# Altium integrated library TI Amplifiers and Linear Operational Amplifier High Speed.IntLib: 1100 symbols (part 1 of 44)
Pins are listed as number, name and electrical type; pins without a type are passive.

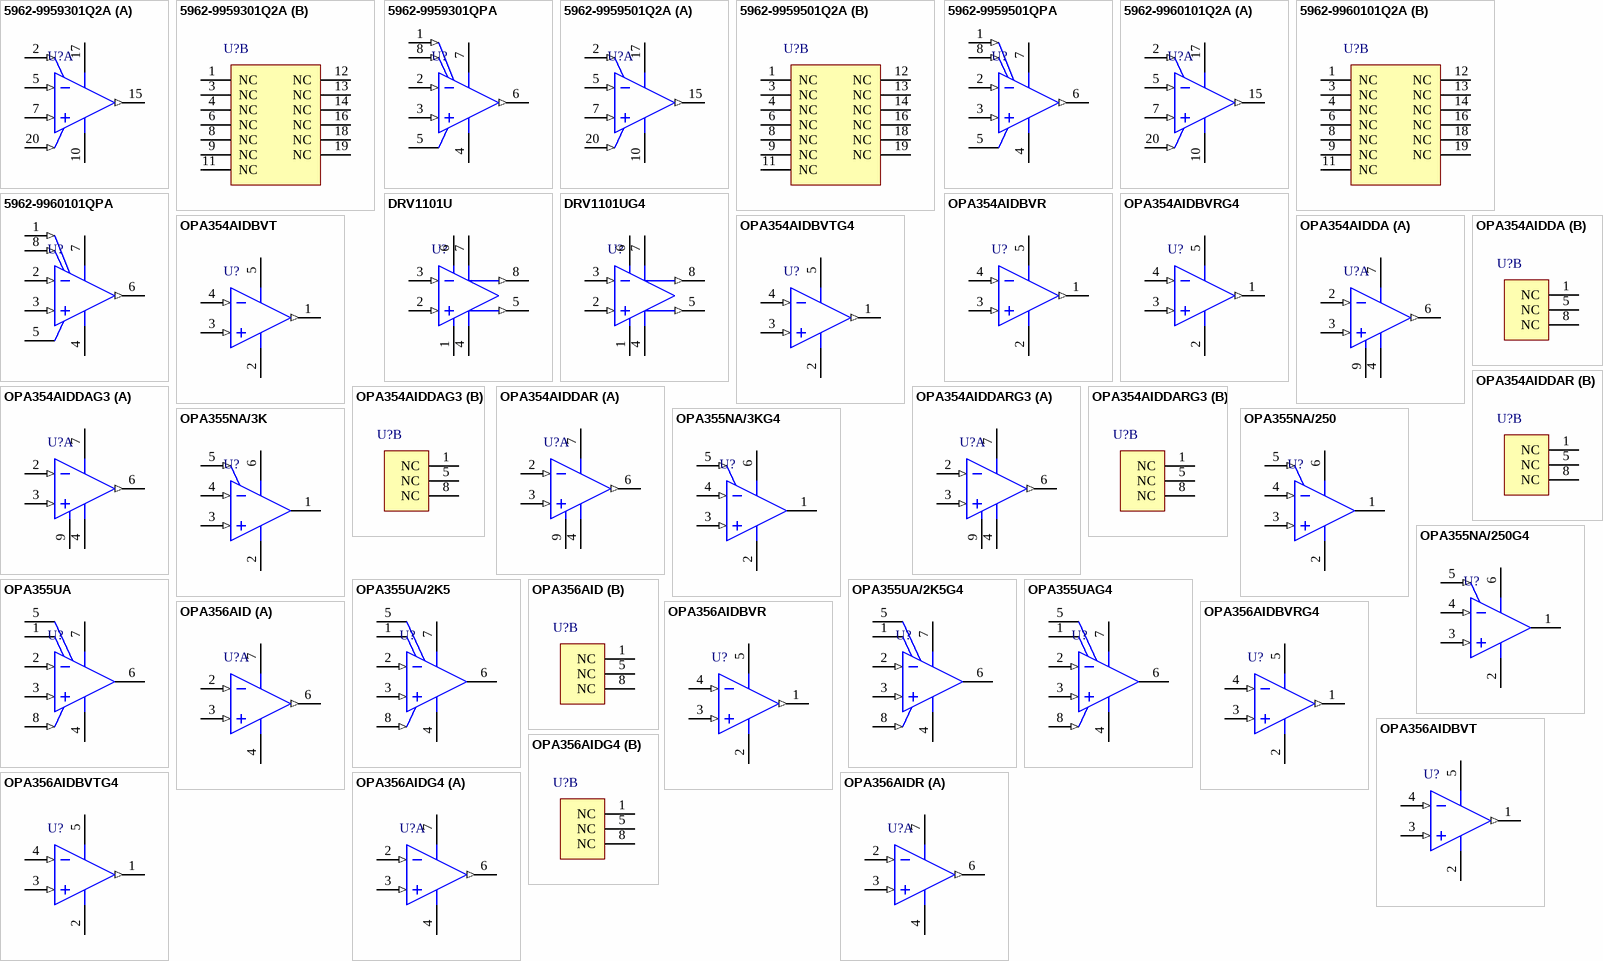
[diagram p0: symbols 5962-9959301Q2A to OPA356AIDR]

## 5962-9959301Q2A
designator U?
290 MHz Low-Distortion Voltage-Feedback Amplifier, 9 to 32 V, -55 to 125 degC, 20-pin LCC (FK20); Manufacturer: Texas Instruments; PartNumber: 5962-9959301Q2A; 2nd Harmonic(dBc): 64; 3rd Harmonic(dBc): 78; @ MHz: 5; Acl, min stable gain(V/V): 1; BW @ Acl(MHz): 290; Diff Gain(%): 0.006; Diff Phase(deg): 0.01; Iib(Max)(nA): 8000; Io(Typ)(mA): 110; Iq per channel(Max)(mA): 11; Settling Time (0.1%)(Typ)(ns): 37; Slew Rate(Typ)(V/us): 310; Sub Family: High Output Current Amplifier (>=50mA), High Speed Amplifier (>=50MHz), High Supply Voltage Amplifier (>=30V); THD (Fc is 1 MHz)(Typ)(dB): -80; Vio(Max)(mV): 6; Vn at Flatband(Typ)(nV/rtHz): 7.5; Vs(Max)(V): 32; Vs(Min)(V): 9; DatasheetVersion: SLOS216E; PackageVersion: 4040140/D, 01/2011; PackageReference: FK20; PackageDescription: 20-Pin Ceramic, Metal Chip Carrier, Body 8.89 x 8.89 mm, Pitch 1.27 mm; Number of Channels: 1; Mounting Technology: Surface Mount; Code_JEDEC: MS-004; ComponentLink1Description: Manufacturer URL; ComponentLink1URL: http://www.ti.com/; ComponentLink2Description: Datasheet; ComponentLink2URL: http://www.ti.com/general/docs/lit/getliterature.tsp?genericPartNumber=THS4011M&fileType=pdf; ComponentLink3Description: Package Specification; ComponentLink3URL: http://www.ti.com/litv/pdf/mlcc006d
footprint TI-FK20_N (Leadless Chip Carrier, 20-Leads, Body 8.9x8.9mm, Pitch 1.27mm, IPC Medium Density)
footprint TI-FK20_L (Leadless Chip Carrier, 20-Leads, Body 8.9x8.9mm, Pitch 1.27mm, IPC High Density)
footprint TI-FK20_M (Leadless Chip Carrier, 20-Leads, Body 8.9x8.9mm, Pitch 1.27mm, IPC Low Density)
part A pins: 2 NULL (in), 5 IN- (in), 7 IN+ (in), 10 VCC- (power), 15 OUT (out), 17 VCC+ (power), 20 NULL (in)
part B pins: 1 NC, 3 NC, 4 NC, 6 NC, 8 NC, 9 NC, 11 NC, 12 NC, 13 NC, 14 NC, 16 NC, 18 NC, 19 NC

## 5962-9959301QPA
designator U?
290 MHz Low-Distortion Voltage-Feedback Amplifier, 9 to 32 V, -55 to 125 degC, 8-pin DIP (JG8); Manufacturer: Texas Instruments; PartNumber: 5962-9959301QPA; 2nd Harmonic(dBc): 64; 3rd Harmonic(dBc): 78; @ MHz: 5; Acl, min stable gain(V/V): 1; BW @ Acl(MHz): 290; Diff Gain(%): 0.006; Diff Phase(deg): 0.01; Iib(Max)(nA): 8000; Io(Typ)(mA): 110; Iq per channel(Max)(mA): 11; Settling Time (0.1%)(Typ)(ns): 37; Slew Rate(Typ)(V/us): 310; Sub Family: High Output Current Amplifier (>=50mA), High Speed Amplifier (>=50MHz), High Supply Voltage Amplifier (>=30V); THD (Fc is 1 MHz)(Typ)(dB): -80; Vio(Max)(mV): 6; Vn at Flatband(Typ)(nV/rtHz): 7.5; Vs(Max)(V): 32; Vs(Min)(V): 9; DatasheetVersion: SLOS216E; PackageVersion: 4040107/C, 08/1996; PackageReference: JG8; PackageDescription: 8-Pin Ceramic, Glass In-Line, Body 9.58 x 6.665 mm, Pitch 2.54 mm; Number of Channels: 1; Mounting Technology: Through Hole; ComponentLink1Description: Manufacturer URL; ComponentLink1URL: http://www.ti.com/; ComponentLink2Description: Datasheet; ComponentLink2URL: http://www.ti.com/general/docs/lit/getliterature.tsp?genericPartNumber=THS4011M&fileType=pdf; ComponentLink3Description: Package Specification; ComponentLink3URL: http://www.ti.com/litv/pdf/mcer001a
footprint TI-JG8 (DIP, 8-Leads, Body 10.15x7.1mm, Pitch 2.54mm)
pins: 1 NULL (in), 2 IN- (in), 3 IN+ (in), 4 VCC- (power), 5 NC, 6 OUT (out), 7 VCC+ (power), 8 NULL (in)

## 5962-9959501Q2A
designator U?
100 MHz Low-Noise High-Speed Amplifier, 9 to 32 V, -55 to 125 degC, 20-pin LCC (FK20); Manufacturer: Texas Instruments; PartNumber: 5962-9959501Q2A; BW @ Acl(MHz): 100; Diff Gain(%): 0.015; Diff Phase(deg): 0.025; Iib(Max)(nA): 6000; Io(Typ)(mA): 90; Number of Channels: 1; Settling Time (0.1%)(Typ)(ns): 60; Sub Family: High Speed Amplifier (>=50MHz); THD (Fc is 1 MHz)(Typ)(dB): -96; Vio(Max)(mV): 8; Vn at Flatband(Typ)(nV/rtHz): 1.6; Vs(Max)(V): 32; Vs(Min)(V): 9; DatasheetVersion: SLOS224G; PackageVersion: 4040140/D, 01/2011; PackageReference: FK20; PackageDescription: 20-Pin Ceramic, Metal Chip Carrier, Body 8.89 x 8.89 mm, Pitch 1.27 mm; Slew Rate(Typ)(V/us): 100; Mounting Technology: Surface Mount; Code_JEDEC: MS-004; ComponentLink1Description: Manufacturer URL; ComponentLink1URL: http://www.ti.com/; ComponentLink2Description: Datasheet; ComponentLink2URL: http://www.ti.com/general/docs/lit/getliterature.tsp?genericPartNumber=THS4031M&fileType=pdf; ComponentLink3Description: Package Specification; ComponentLink3URL: http://www.ti.com/litv/pdf/mlcc006d
footprint TI-FK20_N (Leadless Chip Carrier, 20-Leads, Body 8.9x8.9mm, Pitch 1.27mm, IPC Medium Density)
footprint TI-FK20_L (Leadless Chip Carrier, 20-Leads, Body 8.9x8.9mm, Pitch 1.27mm, IPC High Density)
footprint TI-FK20_M (Leadless Chip Carrier, 20-Leads, Body 8.9x8.9mm, Pitch 1.27mm, IPC Low Density)
part A pins: 2 NULL (in), 5 IN- (in), 7 IN+ (in), 10 VCC- (power), 15 OUT (out), 17 VCC+ (power), 20 NULL (in)
part B pins: 1 NC, 3 NC, 4 NC, 6 NC, 8 NC, 9 NC, 11 NC, 12 NC, 13 NC, 14 NC, 16 NC, 18 NC, 19 NC

## 5962-9959501QPA
designator U?
100 MHz Low-Noise High-Speed Amplifier, 9 to 32 V, -55 to 125 degC, 8-pin DIP (JG8); Manufacturer: Texas Instruments; PartNumber: 5962-9959501QPA; BW @ Acl(MHz): 100; Diff Gain(%): 0.015; Diff Phase(deg): 0.025; Iib(Max)(nA): 6000; Io(Typ)(mA): 90; Number of Channels: 1; Settling Time (0.1%)(Typ)(ns): 60; Sub Family: High Speed Amplifier (>=50MHz); THD (Fc is 1 MHz)(Typ)(dB): -96; Vio(Max)(mV): 8; Vn at Flatband(Typ)(nV/rtHz): 1.6; Vs(Max)(V): 32; Vs(Min)(V): 9; DatasheetVersion: SLOS224G; PackageVersion: 4040107/C, 08/1996; PackageReference: JG8; PackageDescription: 8-Pin Ceramic, Glass In-Line, Body 9.58 x 6.665 mm, Pitch 2.54 mm; Slew Rate(Typ)(V/us): 100; Mounting Technology: Through Hole; ComponentLink1Description: Manufacturer URL; ComponentLink1URL: http://www.ti.com/; ComponentLink2Description: Datasheet; ComponentLink2URL: http://www.ti.com/general/docs/lit/getliterature.tsp?genericPartNumber=THS4031M&fileType=pdf; ComponentLink3Description: Package Specification; ComponentLink3URL: http://www.ti.com/litv/pdf/mcer001a
footprint TI-JG8 (DIP, 8-Leads, Body 10.15x7.1mm, Pitch 2.54mm)
pins: 1 NULL (in), 2 IN- (in), 3 IN+ (in), 4 VCC- (power), 5 NC, 6 OUT (out), 7 VCC+ (power), 8 NULL (in)

## 5962-9960101Q2A
designator U?
180 MHz High-Speed Amplifier, 9 to 32 V, -55 to 125 degC, 20-pin LCC (FK20); Manufacturer: Texas Instruments; PartNumber: 5962-9960101Q2A; 2nd Harmonic(dBc): 73; 3rd Harmonic(dBc): 88; @ MHz: 1; BW @ Acl(MHz): 180; Diff Gain(%): 0.02; Iib(Max)(nA): 6000; Io(Typ)(mA): 115; Iq per channel(Max)(mA): 11; Settling Time (0.1%)(Typ)(ns): 40; Slew Rate(Typ)(V/us): 400; Sub Family: High Output Current Amplifier (>=50mA), High Speed Amplifier (>=50MHz), High Supply Voltage Amplifier (>=30V); THD (Fc is 1 MHz)(Typ)(dB): -72; Vio(Max)(mV): 8; Vn at Flatband(Typ)(nV/rtHz): 14.5; Vs(Max)(V): 32; Vs(Min)(V): 9; DatasheetVersion: SLOS234E; PackageVersion: 4040140/D, 01/2011; PackageReference: FK20; PackageDescription: 20-Pin Ceramic, Metal Chip Carrier, Body 8.89 x 8.89 mm, Pitch 1.27 mm; Acl, min stable gain(V/V): 1; Diff Phase(deg): 0.02; Number of Channels: 1; Mounting Technology: Surface Mount; Code_JEDEC: MS-004; ComponentLink1Description: Manufacturer URL; ComponentLink1URL: http://www.ti.com/; ComponentLink2Description: Datasheet; ComponentLink2URL: http://www.ti.com/general/docs/lit/getliterature.tsp?genericPartNumber=THS4061M&fileType=pdf; ComponentLink3Description: Package Specification; ComponentLink3URL: http://www.ti.com/litv/pdf/mlcc006d
footprint TI-FK20_N (Leadless Chip Carrier, 20-Leads, Body 8.9x8.9mm, Pitch 1.27mm, IPC Medium Density)
footprint TI-FK20_L (Leadless Chip Carrier, 20-Leads, Body 8.9x8.9mm, Pitch 1.27mm, IPC High Density)
footprint TI-FK20_M (Leadless Chip Carrier, 20-Leads, Body 8.9x8.9mm, Pitch 1.27mm, IPC Low Density)
part A pins: 2 NULL (in), 5 IN- (in), 7 IN+ (in), 10 VCC- (power), 15 OUT (out), 17 VCC+ (power), 20 NULL (in)
part B pins: 1 NC, 3 NC, 4 NC, 6 NC, 8 NC, 9 NC, 11 NC, 12 NC, 13 NC, 14 NC, 16 NC, 18 NC, 19 NC

## 5962-9960101QPA
designator U?
180 MHz High-Speed Amplifier, 9 to 32 V, -55 to 125 degC, 8-pin DIP (JG8); Manufacturer: Texas Instruments; PartNumber: 5962-9960101QPA; 2nd Harmonic(dBc): 73; 3rd Harmonic(dBc): 88; @ MHz: 1; BW @ Acl(MHz): 180; Diff Gain(%): 0.02; Iib(Max)(nA): 6000; Io(Typ)(mA): 115; Iq per channel(Max)(mA): 11; Settling Time (0.1%)(Typ)(ns): 40; Slew Rate(Typ)(V/us): 400; Sub Family: High Output Current Amplifier (>=50mA), High Speed Amplifier (>=50MHz), High Supply Voltage Amplifier (>=30V); THD (Fc is 1 MHz)(Typ)(dB): -72; Vio(Max)(mV): 8; Vn at Flatband(Typ)(nV/rtHz): 14.5; Vs(Max)(V): 32; Vs(Min)(V): 9; DatasheetVersion: SLOS234E; PackageVersion: 4040107/C, 08/1996; PackageReference: JG8; PackageDescription: 8-Pin Ceramic, Glass In-Line, Body 9.58 x 6.665 mm, Pitch 2.54 mm; Acl, min stable gain(V/V): 1; Diff Phase(deg): 0.02; Number of Channels: 1; Mounting Technology: Through Hole; ComponentLink1Description: Manufacturer URL; ComponentLink1URL: http://www.ti.com/; ComponentLink2Description: Datasheet; ComponentLink2URL: http://www.ti.com/general/docs/lit/getliterature.tsp?genericPartNumber=THS4061M&fileType=pdf; ComponentLink3Description: Package Specification; ComponentLink3URL: http://www.ti.com/litv/pdf/mcer001a
footprint TI-JG8 (DIP, 8-Leads, Body 10.15x7.1mm, Pitch 2.54mm)
pins: 1 NULL (in), 2 IN- (in), 3 IN+ (in), 4 VCC- (power), 5 NC, 6 OUT (out), 7 VCC+ (power), 8 NULL (in)

## DRV1101U
designator U?
High Power Differential Line Driver, 4.5 to 5.5 V, -40 to 85 degC, 8-pin SOIC (D8), Green (RoHS & no Sb/Br); Manufacturer: Texas Instruments; PartNumber: DRV1101U; Acl, min stable gain(V/V): 3; BW @ Acl(MHz): 10; Iib(Max)(nA): 1; Io(Typ)(mA): 230; Iq per channel(Max)(mA): 38; Rail-Rail: In, Out; Settling Time (0.1%)(Typ)(ns): 300; Slew Rate(Typ)(V/us): 100; Sub Family: Precision Amplifier; THD (Fc is 1 MHz)(Typ)(dB): -88; Vn at Flatband(Typ)(nV/rtHz): 30; Vs(Max)(V): 5.5; Vs(Min)(V): 4.5; DatasheetVersion: SBWS009; PackageVersion: 4040047-3/M, 06/2011; PackageReference: D8; PackageDescription: 8-Pin Plastic Small Outline, Body 4.9 x 3.9 mm, Pitch 1.27 mm; Supplier 1: Digi-Key; Supplier Part Number 1: DRV1101U-ND; Supplier 2: Farnell; Supplier Part Number 2: 1460357; Supplier 3: Newark; Supplier Part Number 3: 74C9525; Supplier 4: Mouser; Supplier Part Number 4: 595-DRV1101U; Eco-Plan: Green (RoHS & no Sb/Br); Number of Channels: 1; Vio(Max)(mV): 3; Mounting Technology: Surface Mount; Code_JEDEC: MS-012; ComponentLink1Description: Manufacturer URL; ComponentLink1URL: http://www.ti.com/; ComponentLink2Description: Datasheet; ComponentLink2URL: http://www.ti.com/general/docs/lit/getliterature.tsp?genericPartNumber=DRV1101&fileType=pdf; ComponentLink3Description: Package Specification; ComponentLink3URL: http://www.ti.com/litv/pdf/msoi002j
footprint TI-D8_N (SOIC, 8-Leads, Body 4.9x3.9mm, Pitch 1.27mm, IPC Medium Density)
footprint TI-D8_L (SOIC, 8-Leads, Body 4.9x3.9mm, Pitch 1.27mm, IPC High Density)
footprint TI-D8_M (SOIC, 8-Leads, Body 4.9x3.9mm, Pitch 1.27mm, IPC Low Density)
pins: 1 GND (power), 2 IN+ (in), 3 IN- (in), 4 GND (power), 5 OUT+ (out), 6 VDD (power), 7 VDD (power), 8 OUT- (out)

## DRV1101UG4
designator U?
High Power Differential Line Driver, 4.5 to 5.5 V, -40 to 85 degC, 8-pin SOIC (D8), Green (RoHS & no Sb/Br); Manufacturer: Texas Instruments; PartNumber: DRV1101UG4; Acl, min stable gain(V/V): 3; BW @ Acl(MHz): 10; Iib(Max)(nA): 1; Io(Typ)(mA): 230; Iq per channel(Max)(mA): 38; Rail-Rail: In, Out; Settling Time (0.1%)(Typ)(ns): 300; Slew Rate(Typ)(V/us): 100; Sub Family: Precision Amplifier; THD (Fc is 1 MHz)(Typ)(dB): -88; Vn at Flatband(Typ)(nV/rtHz): 30; Vs(Max)(V): 5.5; Vs(Min)(V): 4.5; DatasheetVersion: SBWS009; PackageVersion: 4040047-3/M, 06/2011; PackageReference: D8; PackageDescription: 8-Pin Plastic Small Outline, Body 4.9 x 3.9 mm, Pitch 1.27 mm; Supplier 1: Digi-Key; Supplier Part Number 1: DRV1101UG4-ND; Supplier 2: Newark; Supplier Part Number 2: 41M3152; Supplier 3: Mouser; Supplier Part Number 3: 595-DRV1101UG4; Eco-Plan: Green (RoHS & no Sb/Br); Number of Channels: 1; Vio(Max)(mV): 3; Mounting Technology: Surface Mount; Code_JEDEC: MS-012; ComponentLink1Description: Manufacturer URL; ComponentLink1URL: http://www.ti.com/; ComponentLink2Description: Datasheet; ComponentLink2URL: http://www.ti.com/general/docs/lit/getliterature.tsp?genericPartNumber=DRV1101&fileType=pdf; ComponentLink3Description: Package Specification; ComponentLink3URL: http://www.ti.com/litv/pdf/msoi002j
footprint TI-D8_N (SOIC, 8-Leads, Body 4.9x3.9mm, Pitch 1.27mm, IPC Medium Density)
footprint TI-D8_L (SOIC, 8-Leads, Body 4.9x3.9mm, Pitch 1.27mm, IPC High Density)
footprint TI-D8_M (SOIC, 8-Leads, Body 4.9x3.9mm, Pitch 1.27mm, IPC Low Density)
pins: 1 GND (power), 2 IN+ (in), 3 IN- (in), 4 GND (power), 5 OUT+ (out), 6 VDD (power), 7 VDD (power), 8 OUT- (out)

## OPA354AIDBVR
designator U?
250 MHz, Rail-to-Rail I/O, CMOS Single Operational Amplifier, 2.5 to 5.5 V, -40 to 125 degC, 5-pin SOT23 (DBV5), Green (RoHS & no Sb/Br); Manufacturer: Texas Instruments; PartNumber: OPA354AIDBVR; 2nd Harmonic(dBc): 75; 3rd Harmonic(dBc): 83; @ MHz: 1; BW @ Acl(MHz): 250; Diff Gain(%): 0.02; Diff Phase(deg): 0.09; Iib(Max)(nA): 0.05; Io(Typ)(mA): 100; Iq per channel(Max)(mA): 7.5; Rail-Rail: In, Out; Settling Time (0.1%)(Typ)(ns): 30; Slew Rate(Typ)(V/us): 150; Sub Family: High Output Current Amplifier (>=50mA), High Speed Amplifier (>=50MHz), Low Supply Voltage Amplifier (<=2.7V); THD (Fc is 1 MHz)(Typ)(dB): -73; Vio(Max)(mV): 8; Vn at Flatband(Typ)(nV/rtHz): 6.5; Vs(Max)(V): 5.5; Vs(Min)(V): 2.5; DatasheetVersion: SBOS233E; PackageVersion: 4073253-4/K, 03/2006; PackageReference: DBV5; PackageDescription: 5-Pin Plastic Small Outline, Body 1.6 x 2.9 mm, Pitch 0.95 mm; Supplier 1: Digi-Key; Supplier Part Number 1: 296-26279-2-ND; Supplier 2: Digi-Key; Supplier Part Number 2: 296-26279-1-ND; Supplier 3: Digi-Key; Supplier Part Number 3: 296-26279-6-ND; Supplier 4: Newark; Supplier Part Number 4: 75C4905; Supplier 5: Mouser; Supplier Part Number 5: 595-OPA354AIDBVR; Acl, min stable gain(V/V): 1; Eco-Plan: Green (RoHS & no Sb/Br); Number of Channels: 1; Mounting Technology: Surface Mount; Code_JEDEC: MO-178; ComponentLink1Description: Manufacturer URL; ComponentLink1URL: http://www.ti.com/; ComponentLink2Description: Datasheet; ComponentLink2URL: http://www.ti.com/general/docs/lit/getliterature.tsp?genericPartNumber=OPA354&fileType=pdf; ComponentLink3Description: Package Specification; ComponentLink3URL: http://www.ti.com/litv/pdf/mpds018i
footprint TI-DBV5_N (SOT23, 5-Leads, Body 2.9x1.6mm, Pitch 0.95mm, IPC Medium Density)
footprint TI-DBV5_L (SOT23, 5-Leads, Body 2.9x1.6mm, Pitch 0.95mm, IPC High Density)
footprint TI-DBV5_M (SOT23, 5-Leads, Body 2.9x1.6mm, Pitch 0.95mm, IPC Low Density)
pins: 1 OUT (out), 2 V- (power), 3 IN+ (in), 4 IN- (in), 5 V+ (power)

## OPA354AIDBVRG4
designator U?
250 MHz, Rail-to-Rail I/O, CMOS Single Operational Amplifier, 2.5 to 5.5 V, -40 to 125 degC, 5-pin SOT23 (DBV5), Green (RoHS & no Sb/Br); Manufacturer: Texas Instruments; PartNumber: OPA354AIDBVRG4; 2nd Harmonic(dBc): 75; 3rd Harmonic(dBc): 83; @ MHz: 1; BW @ Acl(MHz): 250; Diff Gain(%): 0.02; Diff Phase(deg): 0.09; Iib(Max)(nA): 0.05; Io(Typ)(mA): 100; Iq per channel(Max)(mA): 7.5; Rail-Rail: In, Out; Settling Time (0.1%)(Typ)(ns): 30; Slew Rate(Typ)(V/us): 150; Sub Family: High Output Current Amplifier (>=50mA), High Speed Amplifier (>=50MHz), Low Supply Voltage Amplifier (<=2.7V); THD (Fc is 1 MHz)(Typ)(dB): -73; Vio(Max)(mV): 8; Vn at Flatband(Typ)(nV/rtHz): 6.5; Vs(Max)(V): 5.5; Vs(Min)(V): 2.5; DatasheetVersion: SBOS233E; PackageVersion: 4073253-4/K, 03/2006; PackageReference: DBV5; PackageDescription: 5-Pin Plastic Small Outline, Body 1.6 x 2.9 mm, Pitch 0.95 mm; Supplier 1: Digi-Key; Supplier Part Number 1: OPA354AIDBVRG4-ND; Supplier 2: Newark; Supplier Part Number 2: 28K3621; Supplier 3: Mouser; Supplier Part Number 3: 595-OPA354AIDBVRG4; Acl, min stable gain(V/V): 1; Eco-Plan: Green (RoHS & no Sb/Br); Number of Channels: 1; Mounting Technology: Surface Mount; Code_JEDEC: MO-178; ComponentLink1Description: Manufacturer URL; ComponentLink1URL: http://www.ti.com/; ComponentLink2Description: Datasheet; ComponentLink2URL: http://www.ti.com/general/docs/lit/getliterature.tsp?genericPartNumber=OPA354&fileType=pdf; ComponentLink3Description: Package Specification; ComponentLink3URL: http://www.ti.com/litv/pdf/mpds018i
footprint TI-DBV5_N (SOT23, 5-Leads, Body 2.9x1.6mm, Pitch 0.95mm, IPC Medium Density)
footprint TI-DBV5_L (SOT23, 5-Leads, Body 2.9x1.6mm, Pitch 0.95mm, IPC High Density)
footprint TI-DBV5_M (SOT23, 5-Leads, Body 2.9x1.6mm, Pitch 0.95mm, IPC Low Density)
pins: 1 OUT (out), 2 V- (power), 3 IN+ (in), 4 IN- (in), 5 V+ (power)

## OPA354AIDBVT
designator U?
250 MHz, Rail-to-Rail I/O, CMOS Single Operational Amplifier, 2.5 to 5.5 V, -40 to 125 degC, 5-pin SOT23 (DBV5), Green (RoHS & no Sb/Br); Manufacturer: Texas Instruments; PartNumber: OPA354AIDBVT; 2nd Harmonic(dBc): 75; 3rd Harmonic(dBc): 83; @ MHz: 1; BW @ Acl(MHz): 250; Diff Gain(%): 0.02; Diff Phase(deg): 0.09; Iib(Max)(nA): 0.05; Io(Typ)(mA): 100; Iq per channel(Max)(mA): 7.5; Rail-Rail: In, Out; Settling Time (0.1%)(Typ)(ns): 30; Slew Rate(Typ)(V/us): 150; Sub Family: High Output Current Amplifier (>=50mA), High Speed Amplifier (>=50MHz), Low Supply Voltage Amplifier (<=2.7V); THD (Fc is 1 MHz)(Typ)(dB): -73; Vio(Max)(mV): 8; Vn at Flatband(Typ)(nV/rtHz): 6.5; Vs(Max)(V): 5.5; Vs(Min)(V): 2.5; DatasheetVersion: SBOS233E; PackageVersion: 4073253-4/K, 03/2006; PackageReference: DBV5; PackageDescription: 5-Pin Plastic Small Outline, Body 1.6 x 2.9 mm, Pitch 0.95 mm; Supplier 1: Digi-Key; Supplier Part Number 1: 296-13033-2-ND; Supplier 2: Digi-Key; Supplier Part Number 2: 296-13033-1-ND; Supplier 3: Digi-Key; Supplier Part Number 3: 296-13033-6-ND; Supplier 4: Newark; Supplier Part Number 4: 75C4906; Supplier 5: Mouser; Supplier Part Number 5: 595-OPA354AIDBVT; Acl, min stable gain(V/V): 1; Eco-Plan: Green (RoHS & no Sb/Br); Number of Channels: 1; Mounting Technology: Surface Mount; Code_JEDEC: MO-178; ComponentLink1Description: Manufacturer URL; ComponentLink1URL: http://www.ti.com/; ComponentLink2Description: Datasheet; ComponentLink2URL: http://www.ti.com/general/docs/lit/getliterature.tsp?genericPartNumber=OPA354&fileType=pdf; ComponentLink3Description: Package Specification; ComponentLink3URL: http://www.ti.com/litv/pdf/mpds018i
footprint TI-DBV5_N (SOT23, 5-Leads, Body 2.9x1.6mm, Pitch 0.95mm, IPC Medium Density)
footprint TI-DBV5_L (SOT23, 5-Leads, Body 2.9x1.6mm, Pitch 0.95mm, IPC High Density)
footprint TI-DBV5_M (SOT23, 5-Leads, Body 2.9x1.6mm, Pitch 0.95mm, IPC Low Density)
pins: 1 OUT (out), 2 V- (power), 3 IN+ (in), 4 IN- (in), 5 V+ (power)

## OPA354AIDBVTG4
designator U?
250 MHz, Rail-to-Rail I/O, CMOS Single Operational Amplifier, 2.5 to 5.5 V, -40 to 125 degC, 5-pin SOT23 (DBV5), Green (RoHS & no Sb/Br); Manufacturer: Texas Instruments; PartNumber: OPA354AIDBVTG4; 2nd Harmonic(dBc): 75; 3rd Harmonic(dBc): 83; @ MHz: 1; BW @ Acl(MHz): 250; Diff Gain(%): 0.02; Diff Phase(deg): 0.09; Iib(Max)(nA): 0.05; Io(Typ)(mA): 100; Iq per channel(Max)(mA): 7.5; Rail-Rail: In, Out; Settling Time (0.1%)(Typ)(ns): 30; Slew Rate(Typ)(V/us): 150; Sub Family: High Output Current Amplifier (>=50mA), High Speed Amplifier (>=50MHz), Low Supply Voltage Amplifier (<=2.7V); THD (Fc is 1 MHz)(Typ)(dB): -73; Vio(Max)(mV): 8; Vn at Flatband(Typ)(nV/rtHz): 6.5; Vs(Max)(V): 5.5; Vs(Min)(V): 2.5; DatasheetVersion: SBOS233E; PackageVersion: 4073253-4/K, 03/2006; PackageReference: DBV5; PackageDescription: 5-Pin Plastic Small Outline, Body 1.6 x 2.9 mm, Pitch 0.95 mm; Supplier 1: Digi-Key; Supplier Part Number 1: OPA354AIDBVTG4-ND; Supplier 2: Farnell; Supplier Part Number 2: 1207050; Supplier 3: Farnell; Supplier Part Number 3: 1207050RL; Supplier 4: Newark; Supplier Part Number 4: 97K6835; Supplier 5: Newark; Supplier Part Number 5: 54K0164; Supplier 6: Mouser; Supplier Part Number 6: 595-OPA354AIDBVTG4; Acl, min stable gain(V/V): 1; Eco-Plan: Green (RoHS & no Sb/Br); Number of Channels: 1; Mounting Technology: Surface Mount; Code_JEDEC: MO-178; ComponentLink1Description: Manufacturer URL; ComponentLink1URL: http://www.ti.com/; ComponentLink2Description: Datasheet; ComponentLink2URL: http://www.ti.com/general/docs/lit/getliterature.tsp?genericPartNumber=OPA354&fileType=pdf; ComponentLink3Description: Package Specification; ComponentLink3URL: http://www.ti.com/litv/pdf/mpds018i
footprint TI-DBV5_N (SOT23, 5-Leads, Body 2.9x1.6mm, Pitch 0.95mm, IPC Medium Density)
footprint TI-DBV5_L (SOT23, 5-Leads, Body 2.9x1.6mm, Pitch 0.95mm, IPC High Density)
footprint TI-DBV5_M (SOT23, 5-Leads, Body 2.9x1.6mm, Pitch 0.95mm, IPC Low Density)
pins: 1 OUT (out), 2 V- (power), 3 IN+ (in), 4 IN- (in), 5 V+ (power)

## OPA354AIDDA
designator U?
250 MHz, Rail-to-Rail I/O, CMOS Single Operational Amplifier, 2.5 to 5.5 V, -40 to 125 degC, 8-pin SOP (DDA8), Green (RoHS & no Sb/Br); Manufacturer: Texas Instruments; PartNumber: OPA354AIDDA; 2nd Harmonic(dBc): 75; 3rd Harmonic(dBc): 83; @ MHz: 1; BW @ Acl(MHz): 250; Diff Gain(%): 0.02; Diff Phase(deg): 0.09; Iib(Max)(nA): 0.05; Io(Typ)(mA): 100; Iq per channel(Max)(mA): 7.5; Rail-Rail: In, Out; Settling Time (0.1%)(Typ)(ns): 30; Slew Rate(Typ)(V/us): 150; Sub Family: High Output Current Amplifier (>=50mA), High Speed Amplifier (>=50MHz), Low Supply Voltage Amplifier (<=2.7V); THD (Fc is 1 MHz)(Typ)(dB): -73; Vio(Max)(mV): 8; Vn at Flatband(Typ)(nV/rtHz): 6.5; Vs(Max)(V): 5.5; Vs(Min)(V): 2.5; DatasheetVersion: SBOS233E; PackageVersion: 4202561/F, 12/2011; PackageReference: DDA8-1775X1775TP; PackageDescription: 8-Pin PowerPAD(TM) Plastic Small Outline, Body 4.9 x 3.9 mm, Pitch 1.27 mm; Supplier 1: Digi-Key; Supplier Part Number 1: 296-13785-5-ND; Supplier 2: Newark; Supplier Part Number 2: 02E6714; Supplier 3: Mouser; Supplier Part Number 3: 595-OPA354AIDDA; Acl, min stable gain(V/V): 1; Eco-Plan: Green (RoHS & no Sb/Br); Number of Channels: 1; Mounting Technology: Surface Mount; Code_JEDEC: MS-012; ComponentLink1Description: Manufacturer URL; ComponentLink1URL: http://www.ti.com/; ComponentLink2Description: Datasheet; ComponentLink2URL: http://www.ti.com/general/docs/lit/getliterature.tsp?genericPartNumber=OPA354&fileType=pdf; ComponentLink3Description: Package Specification; ComponentLink3URL: http://www.ti.com/litv/pdf/mpds092e
footprint TI-DDA8-1775X1775TP_N (SOP, 8-Leads, Body 4.9x3.9mm, Pitch 1.27mm, Thermal Pad 1.775x1.775mm, IPC Medium Density)
footprint TI-DDA8-1775X1775TP_L (SOP, 8-Leads, Body 4.9x3.9mm, Pitch 1.27mm, Thermal Pad 1.775x1.775mm, IPC High Density)
footprint TI-DDA8-1775X1775TP_M (SOP, 8-Leads, Body 4.9x3.9mm, Pitch 1.27mm, Thermal Pad 1.775x1.775mm, IPC Low Density)
part A pins: 2 IN- (in), 3 IN+ (in), 4 V- (power), 6 OUT (out), 7 V+ (power), 9 EP (power)
part B pins: 1 NC, 5 NC, 8 NC

## OPA354AIDDAG3
designator U?
250 MHz, Rail-to-Rail I/O, CMOS Single Operational Amplifier, 2.5 to 5.5 V, -40 to 125 degC, 8-pin SOP (DDA8), Green (RoHS & no Sb/Br); Manufacturer: Texas Instruments; PartNumber: OPA354AIDDAG3; 2nd Harmonic(dBc): 75; 3rd Harmonic(dBc): 83; @ MHz: 1; BW @ Acl(MHz): 250; Diff Gain(%): 0.02; Diff Phase(deg): 0.09; Iib(Max)(nA): 0.05; Io(Typ)(mA): 100; Iq per channel(Max)(mA): 7.5; Rail-Rail: In, Out; Settling Time (0.1%)(Typ)(ns): 30; Slew Rate(Typ)(V/us): 150; Sub Family: High Output Current Amplifier (>=50mA), High Speed Amplifier (>=50MHz), Low Supply Voltage Amplifier (<=2.7V); THD (Fc is 1 MHz)(Typ)(dB): -73; Vio(Max)(mV): 8; Vn at Flatband(Typ)(nV/rtHz): 6.5; Vs(Max)(V): 5.5; Vs(Min)(V): 2.5; DatasheetVersion: SBOS233E; PackageVersion: 4202561/F, 12/2011; PackageReference: DDA8-1775X1775TP; PackageDescription: 8-Pin PowerPAD(TM) Plastic Small Outline, Body 4.9 x 3.9 mm, Pitch 1.27 mm; Supplier 1: Digi-Key; Supplier Part Number 1: OPA354AIDDAG3-ND; Supplier 2: Mouser; Supplier Part Number 2: 595-OPA354AIDDAG3; Acl, min stable gain(V/V): 1; Eco-Plan: Green (RoHS & no Sb/Br); Number of Channels: 1; Mounting Technology: Surface Mount; Code_JEDEC: MS-012; ComponentLink1Description: Manufacturer URL; ComponentLink1URL: http://www.ti.com/; ComponentLink2Description: Datasheet; ComponentLink2URL: http://www.ti.com/general/docs/lit/getliterature.tsp?genericPartNumber=OPA354&fileType=pdf; ComponentLink3Description: Package Specification; ComponentLink3URL: http://www.ti.com/litv/pdf/mpds092e
footprint TI-DDA8-1775X1775TP_N (SOP, 8-Leads, Body 4.9x3.9mm, Pitch 1.27mm, Thermal Pad 1.775x1.775mm, IPC Medium Density)
footprint TI-DDA8-1775X1775TP_L (SOP, 8-Leads, Body 4.9x3.9mm, Pitch 1.27mm, Thermal Pad 1.775x1.775mm, IPC High Density)
footprint TI-DDA8-1775X1775TP_M (SOP, 8-Leads, Body 4.9x3.9mm, Pitch 1.27mm, Thermal Pad 1.775x1.775mm, IPC Low Density)
part A pins: 2 IN- (in), 3 IN+ (in), 4 V- (power), 6 OUT (out), 7 V+ (power), 9 EP (power)
part B pins: 1 NC, 5 NC, 8 NC

## OPA354AIDDAR
designator U?
250 MHz, Rail-to-Rail I/O, CMOS Single Operational Amplifier, 2.5 to 5.5 V, -40 to 125 degC, 8-pin SOP (DDA8), Green (RoHS & no Sb/Br); Manufacturer: Texas Instruments; PartNumber: OPA354AIDDAR; 2nd Harmonic(dBc): 75; 3rd Harmonic(dBc): 83; @ MHz: 1; BW @ Acl(MHz): 250; Diff Gain(%): 0.02; Diff Phase(deg): 0.09; Iib(Max)(nA): 0.05; Io(Typ)(mA): 100; Iq per channel(Max)(mA): 7.5; Rail-Rail: In, Out; Settling Time (0.1%)(Typ)(ns): 30; Slew Rate(Typ)(V/us): 150; Sub Family: High Output Current Amplifier (>=50mA), High Speed Amplifier (>=50MHz), Low Supply Voltage Amplifier (<=2.7V); THD (Fc is 1 MHz)(Typ)(dB): -73; Vio(Max)(mV): 8; Vn at Flatband(Typ)(nV/rtHz): 6.5; Vs(Max)(V): 5.5; Vs(Min)(V): 2.5; DatasheetVersion: SBOS233E; PackageVersion: 4202561/F, 12/2011; PackageReference: DDA8-1775X1775TP; PackageDescription: 8-Pin PowerPAD(TM) Plastic Small Outline, Body 4.9 x 3.9 mm, Pitch 1.27 mm; Supplier 1: Digi-Key; Supplier Part Number 1: OPA354AIDDAR-ND; Supplier 2: Newark; Supplier Part Number 2: 02E6715; Supplier 3: Mouser; Supplier Part Number 3: 595-OPA354AIDDAR; Acl, min stable gain(V/V): 1; Eco-Plan: Green (RoHS & no Sb/Br); Number of Channels: 1; Mounting Technology: Surface Mount; Code_JEDEC: MS-012; ComponentLink1Description: Manufacturer URL; ComponentLink1URL: http://www.ti.com/; ComponentLink2Description: Datasheet; ComponentLink2URL: http://www.ti.com/general/docs/lit/getliterature.tsp?genericPartNumber=OPA354&fileType=pdf; ComponentLink3Description: Package Specification; ComponentLink3URL: http://www.ti.com/litv/pdf/mpds092e
footprint TI-DDA8-1775X1775TP_N (SOP, 8-Leads, Body 4.9x3.9mm, Pitch 1.27mm, Thermal Pad 1.775x1.775mm, IPC Medium Density)
footprint TI-DDA8-1775X1775TP_L (SOP, 8-Leads, Body 4.9x3.9mm, Pitch 1.27mm, Thermal Pad 1.775x1.775mm, IPC High Density)
footprint TI-DDA8-1775X1775TP_M (SOP, 8-Leads, Body 4.9x3.9mm, Pitch 1.27mm, Thermal Pad 1.775x1.775mm, IPC Low Density)
part A pins: 2 IN- (in), 3 IN+ (in), 4 V- (power), 6 OUT (out), 7 V+ (power), 9 EP (power)
part B pins: 1 NC, 5 NC, 8 NC

## OPA354AIDDARG3
designator U?
250 MHz, Rail-to-Rail I/O, CMOS Single Operational Amplifier, 2.5 to 5.5 V, -40 to 125 degC, 8-pin SOP (DDA8), Green (RoHS & no Sb/Br); Manufacturer: Texas Instruments; PartNumber: OPA354AIDDARG3; 2nd Harmonic(dBc): 75; 3rd Harmonic(dBc): 83; @ MHz: 1; BW @ Acl(MHz): 250; Diff Gain(%): 0.02; Diff Phase(deg): 0.09; Io(Typ)(mA): 100; Iq per channel(Max)(mA): 7.5; Settling Time (0.1%)(Typ)(ns): 30; Slew Rate(Typ)(V/us): 150; Sub Family: High Output Current Amplifier (>=50mA), High Speed Amplifier (>=50MHz), Low Supply Voltage Amplifier (<=2.7V); THD (Fc is 1 MHz)(Typ)(dB): -73; Vio(Max)(mV): 8; Vn at Flatband(Typ)(nV/rtHz): 6.5; Vs(Max)(V): 5.5; Vs(Min)(V): 2.5; DatasheetVersion: SBOS233E; PackageVersion: 4202561/F, 12/2011; PackageReference: DDA8-1775X1775TP; PackageDescription: 8-Pin PowerPAD(TM) Plastic Small Outline, Body 4.9 x 3.9 mm, Pitch 1.27 mm; Supplier 1: Digi-Key; Supplier Part Number 1: OPA354AIDDARG3-ND; Supplier 2: Mouser; Supplier Part Number 2: 595-OPA354AIDDARG3; Acl, min stable gain(V/V): 1; Eco-Plan: Green (RoHS & no Sb/Br); Number of Channels: 1; Mounting Technology: Surface Mount; Code_JEDEC: MS-012; ComponentLink1Description: Manufacturer URL; ComponentLink1URL: http://www.ti.com/; ComponentLink2Description: Datasheet; ComponentLink2URL: http://www.ti.com/general/docs/lit/getliterature.tsp?genericPartNumber=OPA354&fileType=pdf; ComponentLink3Description: Package Specification; ComponentLink3URL: http://www.ti.com/litv/pdf/mpds092e
footprint TI-DDA8-1775X1775TP_N (SOP, 8-Leads, Body 4.9x3.9mm, Pitch 1.27mm, Thermal Pad 1.775x1.775mm, IPC Medium Density)
footprint TI-DDA8-1775X1775TP_L (SOP, 8-Leads, Body 4.9x3.9mm, Pitch 1.27mm, Thermal Pad 1.775x1.775mm, IPC High Density)
footprint TI-DDA8-1775X1775TP_M (SOP, 8-Leads, Body 4.9x3.9mm, Pitch 1.27mm, Thermal Pad 1.775x1.775mm, IPC Low Density)
part A pins: 2 IN- (in), 3 IN+ (in), 4 V- (power), 6 OUT (out), 7 V+ (power), 9 EP (power)
part B pins: 1 NC, 5 NC, 8 NC

## OPA355NA/3K
designator U?
200 MHz GBW, CMOS Single Operational Amplifier with Shutdown, 2.5 to 5.5 V, -40 to 125 degC, 6-pin SOT23 (DBV6), Green (RoHS & no Sb/Br); Manufacturer: Texas Instruments; PartNumber: OPA355NA/3K; 2nd Harmonic(dBc): 81; 3rd Harmonic(dBc): 93; @ MHz: 1; BW @ Acl(MHz): 450; Diff Gain(%): 0.02; Diff Phase(deg): 0.05; Io(Typ)(mA): 100; Iq per channel(Max)(mA): 14; Rail-Rail: Out; Settling Time (0.1%)(Typ)(ns): 30; Slew Rate(Typ)(V/us): 360; Sub Family: High Output Current Amplifier (>=50mA), High Speed Amplifier (>=50MHz), Low Supply Voltage Amplifier (<=2.7V); THD (Fc is 1 MHz)(Typ)(dB): -79; Vio(Max)(mV): 2; Vn at Flatband(Typ)(nV/rtHz): 5.8; Vs(Max)(V): 5.5; Vs(Min)(V): 2.5; DatasheetVersion: SBOS195D; PackageVersion: 4073253-5/K, 03/2006; PackageReference: DBV6; PackageDescription: 6-Pin Plastic Small Outline, Body 1.6 x 2.9 mm, Pitch 0.95 mm; Supplier 1: Digi-Key; Supplier Part Number 1: 296-14628-2-ND; Supplier 2: Digi-Key; Supplier Part Number 2: 296-14628-1-ND; Supplier 3: Digi-Key; Supplier Part Number 3: 296-14628-6-ND; Supplier 4: Farnell; Supplier Part Number 4: 1575513; Supplier 5: Newark; Supplier Part Number 5: 75C4908; Supplier 6: Mouser; Supplier Part Number 6: 595-OPA355NA/3K; Acl, min stable gain(V/V): 1; Eco-Plan: Green (RoHS & no Sb/Br); Iib(Max)(nA): 0.05; Number of Channels: 1; Mounting Technology: Surface Mount; Code_JEDEC: MO-178; ComponentLink1Description: Manufacturer URL; ComponentLink1URL: http://www.ti.com/; ComponentLink2Description: Datasheet; ComponentLink2URL: http://www.ti.com/general/docs/lit/getliterature.tsp?genericPartNumber=OPA355&fileType=pdf; ComponentLink3Description: Package Specification; ComponentLink3URL: http://www.ti.com/litv/pdf/mpds026h
footprint TI-DBV6_N (SOT23, 6-Leads, Body 2.9x1.6mm, Pitch 0.95mm, IPC Medium Density)
footprint TI-DBV6_L (SOT23, 6-Leads, Body 2.9x1.6mm, Pitch 0.95mm, IPC High Density)
footprint TI-DBV6_M (SOT23, 6-Leads, Body 2.9x1.6mm, Pitch 0.95mm, IPC Low Density)
pins: 1 OUT (hiz), 2 V- (power), 3 IN+ (in), 4 IN- (in), 5 ENABLE (in), 6 V+ (power)

## OPA355NA/3KG4
designator U?
200 MHz GBW, CMOS Single Operational Amplifier with Shutdown, 2.5 to 5.5 V, -40 to 125 degC, 6-pin SOT23 (DBV6), Green (RoHS & no Sb/Br); Manufacturer: Texas Instruments; PartNumber: OPA355NA/3KG4; 2nd Harmonic(dBc): 81; 3rd Harmonic(dBc): 93; @ MHz: 1; BW @ Acl(MHz): 450; Diff Gain(%): 0.02; Diff Phase(deg): 0.05; Io(Typ)(mA): 100; Iq per channel(Max)(mA): 14; Rail-Rail: Out; Settling Time (0.1%)(Typ)(ns): 30; Slew Rate(Typ)(V/us): 360; Sub Family: High Output Current Amplifier (>=50mA), High Speed Amplifier (>=50MHz), Low Supply Voltage Amplifier (<=2.7V); THD (Fc is 1 MHz)(Typ)(dB): -79; Vio(Max)(mV): 2; Vn at Flatband(Typ)(nV/rtHz): 5.8; Vs(Max)(V): 5.5; Vs(Min)(V): 2.5; DatasheetVersion: SBOS195D; PackageVersion: 4073253-5/K, 03/2006; PackageReference: DBV6; PackageDescription: 6-Pin Plastic Small Outline, Body 1.6 x 2.9 mm, Pitch 0.95 mm; Supplier 1: Digi-Key; Supplier Part Number 1: OPA355NA/3KG4-ND; Supplier 2: Mouser; Supplier Part Number 2: 595-OPA355NA/3KG4; Acl, min stable gain(V/V): 1; Eco-Plan: Green (RoHS & no Sb/Br); Iib(Max)(nA): 0.05; Number of Channels: 1; Mounting Technology: Surface Mount; Code_JEDEC: MO-178; ComponentLink1Description: Manufacturer URL; ComponentLink1URL: http://www.ti.com/; ComponentLink2Description: Datasheet; ComponentLink2URL: http://www.ti.com/general/docs/lit/getliterature.tsp?genericPartNumber=OPA355&fileType=pdf; ComponentLink3Description: Package Specification; ComponentLink3URL: http://www.ti.com/litv/pdf/mpds026h
footprint TI-DBV6_N (SOT23, 6-Leads, Body 2.9x1.6mm, Pitch 0.95mm, IPC Medium Density)
footprint TI-DBV6_L (SOT23, 6-Leads, Body 2.9x1.6mm, Pitch 0.95mm, IPC High Density)
footprint TI-DBV6_M (SOT23, 6-Leads, Body 2.9x1.6mm, Pitch 0.95mm, IPC Low Density)
pins: 1 OUT (hiz), 2 V- (power), 3 IN+ (in), 4 IN- (in), 5 ENABLE (in), 6 V+ (power)

## OPA355NA/250
designator U?
200 MHz GBW, CMOS Single Operational Amplifier with Shutdown, 2.5 to 5.5 V, -40 to 125 degC, 6-pin SOT23 (DBV6), Green (RoHS & no Sb/Br); Manufacturer: Texas Instruments; PartNumber: OPA355NA/250; 2nd Harmonic(dBc): 81; 3rd Harmonic(dBc): 93; @ MHz: 1; BW @ Acl(MHz): 450; Diff Gain(%): 0.02; Diff Phase(deg): 0.05; Io(Typ)(mA): 100; Iq per channel(Max)(mA): 14; Rail-Rail: Out; Settling Time (0.1%)(Typ)(ns): 30; Slew Rate(Typ)(V/us): 360; Sub Family: High Output Current Amplifier (>=50mA), High Speed Amplifier (>=50MHz), Low Supply Voltage Amplifier (<=2.7V); THD (Fc is 1 MHz)(Typ)(dB): -79; Vio(Max)(mV): 2; Vn at Flatband(Typ)(nV/rtHz): 5.8; Vs(Max)(V): 5.5; Vs(Min)(V): 2.5; DatasheetVersion: SBOS195D; PackageVersion: 4073253-5/K, 03/2006; PackageReference: DBV6; PackageDescription: 6-Pin Plastic Small Outline, Body 1.6 x 2.9 mm, Pitch 0.95 mm; Supplier 1: Digi-Key; Supplier Part Number 1: 296-11641-2-ND; Supplier 2: Digi-Key; Supplier Part Number 2: 296-11641-1-ND; Supplier 3: Digi-Key; Supplier Part Number 3: 296-11641-6-ND; Supplier 4: Newark; Supplier Part Number 4: 75C4907; Supplier 5: Mouser; Supplier Part Number 5: 595-OPA355NA/250; Acl, min stable gain(V/V): 1; Eco-Plan: Green (RoHS & no Sb/Br); Iib(Max)(nA): 0.05; Number of Channels: 1; Mounting Technology: Surface Mount; Code_JEDEC: MO-178; ComponentLink1Description: Manufacturer URL; ComponentLink1URL: http://www.ti.com/; ComponentLink2Description: Datasheet; ComponentLink2URL: http://www.ti.com/general/docs/lit/getliterature.tsp?genericPartNumber=OPA355&fileType=pdf; ComponentLink3Description: Package Specification; ComponentLink3URL: http://www.ti.com/litv/pdf/mpds026h
footprint TI-DBV6_N (SOT23, 6-Leads, Body 2.9x1.6mm, Pitch 0.95mm, IPC Medium Density)
footprint TI-DBV6_L (SOT23, 6-Leads, Body 2.9x1.6mm, Pitch 0.95mm, IPC High Density)
footprint TI-DBV6_M (SOT23, 6-Leads, Body 2.9x1.6mm, Pitch 0.95mm, IPC Low Density)
pins: 1 OUT (hiz), 2 V- (power), 3 IN+ (in), 4 IN- (in), 5 ENABLE (in), 6 V+ (power)

## OPA355NA/250G4
designator U?
200 MHz GBW, CMOS Single Operational Amplifier with Shutdown, 2.5 to 5.5 V, -40 to 125 degC, 6-pin SOT23 (DBV6), Green (RoHS & no Sb/Br); Manufacturer: Texas Instruments; PartNumber: OPA355NA/250G4; 2nd Harmonic(dBc): 81; 3rd Harmonic(dBc): 93; @ MHz: 1; BW @ Acl(MHz): 450; Diff Gain(%): 0.02; Diff Phase(deg): 0.05; Io(Typ)(mA): 100; Iq per channel(Max)(mA): 14; Rail-Rail: Out; Settling Time (0.1%)(Typ)(ns): 30; Slew Rate(Typ)(V/us): 360; Sub Family: High Output Current Amplifier (>=50mA), High Speed Amplifier (>=50MHz), Low Supply Voltage Amplifier (<=2.7V); THD (Fc is 1 MHz)(Typ)(dB): -79; Vio(Max)(mV): 2; Vn at Flatband(Typ)(nV/rtHz): 5.8; Vs(Max)(V): 5.5; Vs(Min)(V): 2.5; DatasheetVersion: SBOS195D; PackageVersion: 4073253-5/K, 03/2006; PackageReference: DBV6; PackageDescription: 6-Pin Plastic Small Outline, Body 1.6 x 2.9 mm, Pitch 0.95 mm; Supplier 1: Digi-Key; Supplier Part Number 1: OPA355NA/250G4-ND; Supplier 2: Farnell; Supplier Part Number 2: 1234944; Supplier 3: Newark; Supplier Part Number 3: 13M2587; Supplier 4: Mouser; Supplier Part Number 4: 595-OPA355NA/250G4; Acl, min stable gain(V/V): 1; Eco-Plan: Green (RoHS & no Sb/Br); Iib(Max)(nA): 0.05; Number of Channels: 1; Mounting Technology: Surface Mount; Code_JEDEC: MO-178; ComponentLink1Description: Manufacturer URL; ComponentLink1URL: http://www.ti.com/; ComponentLink2Description: Datasheet; ComponentLink2URL: http://www.ti.com/general/docs/lit/getliterature.tsp?genericPartNumber=OPA355&fileType=pdf; ComponentLink3Description: Package Specification; ComponentLink3URL: http://www.ti.com/litv/pdf/mpds026h
footprint TI-DBV6_N (SOT23, 6-Leads, Body 2.9x1.6mm, Pitch 0.95mm, IPC Medium Density)
footprint TI-DBV6_L (SOT23, 6-Leads, Body 2.9x1.6mm, Pitch 0.95mm, IPC High Density)
footprint TI-DBV6_M (SOT23, 6-Leads, Body 2.9x1.6mm, Pitch 0.95mm, IPC Low Density)
pins: 1 OUT (hiz), 2 V- (power), 3 IN+ (in), 4 IN- (in), 5 ENABLE (in), 6 V+ (power)

## OPA355UA
designator U?
200 MHz GBW, CMOS Single Operational Amplifier with Shutdown, 2.5 to 5.5 V, -40 to 125 degC, 8-pin SOIC (D8), Green (RoHS & no Sb/Br); Manufacturer: Texas Instruments; PartNumber: OPA355UA; 2nd Harmonic(dBc): 81; 3rd Harmonic(dBc): 93; @ MHz: 1; BW @ Acl(MHz): 450; Diff Gain(%): 0.02; Diff Phase(deg): 0.05; Io(Typ)(mA): 100; Iq per channel(Max)(mA): 14; Rail-Rail: Out; Settling Time (0.1%)(Typ)(ns): 30; Slew Rate(Typ)(V/us): 360; Sub Family: High Output Current Amplifier (>=50mA), High Speed Amplifier (>=50MHz), Low Supply Voltage Amplifier (<=2.7V); THD (Fc is 1 MHz)(Typ)(dB): -79; Vio(Max)(mV): 2; Vn at Flatband(Typ)(nV/rtHz): 5.8; Vs(Max)(V): 5.5; Vs(Min)(V): 2.5; DatasheetVersion: SBOS195D; PackageVersion: 4040047-3/M, 06/2011; PackageReference: D8; PackageDescription: 8-Pin Plastic Small Outline, Body 4.9 x 3.9 mm, Pitch 1.27 mm; Supplier 1: Digi-Key; Supplier Part Number 1: 296-11647-5-ND; Supplier 2: Newark; Supplier Part Number 2: 75C4909; Supplier 3: Mouser; Supplier Part Number 3: 595-OPA355UA; Acl, min stable gain(V/V): 1; Eco-Plan: Green (RoHS & no Sb/Br); Iib(Max)(nA): 0.05; Number of Channels: 1; Mounting Technology: Surface Mount; Code_JEDEC: MS-012; ComponentLink1Description: Manufacturer URL; ComponentLink1URL: http://www.ti.com/; ComponentLink2Description: Datasheet; ComponentLink2URL: http://www.ti.com/general/docs/lit/getliterature.tsp?genericPartNumber=OPA355&fileType=pdf; ComponentLink3Description: Package Specification; ComponentLink3URL: http://www.ti.com/litv/pdf/msoi002j
footprint TI-D8_N (SOIC, 8-Leads, Body 4.9x3.9mm, Pitch 1.27mm, IPC Medium Density)
footprint TI-D8_L (SOIC, 8-Leads, Body 4.9x3.9mm, Pitch 1.27mm, IPC High Density)
footprint TI-D8_M (SOIC, 8-Leads, Body 4.9x3.9mm, Pitch 1.27mm, IPC Low Density)
pins: 1 NC, 2 IN- (in), 3 IN+ (in), 4 V- (power), 5 NC, 6 OUT (hiz), 7 V+ (power), 8 ENABLE (in)

## OPA355UA/2K5
designator U?
200 MHz GBW, CMOS Single Operational Amplifier with Shutdown, 2.5 to 5.5 V, -40 to 125 degC, 8-pin SOIC (D8), Green (RoHS & no Sb/Br); Manufacturer: Texas Instruments; PartNumber: OPA355UA/2K5; 2nd Harmonic(dBc): 81; 3rd Harmonic(dBc): 93; @ MHz: 1; BW @ Acl(MHz): 450; Diff Gain(%): 0.02; Diff Phase(deg): 0.05; Io(Typ)(mA): 100; Iq per channel(Max)(mA): 14; Rail-Rail: Out; Settling Time (0.1%)(Typ)(ns): 30; Slew Rate(Typ)(V/us): 360; Sub Family: High Output Current Amplifier (>=50mA), High Speed Amplifier (>=50MHz), Low Supply Voltage Amplifier (<=2.7V); THD (Fc is 1 MHz)(Typ)(dB): -79; Vio(Max)(mV): 2; Vn at Flatband(Typ)(nV/rtHz): 5.8; Vs(Max)(V): 5.5; Vs(Min)(V): 2.5; DatasheetVersion: SBOS195D; PackageVersion: 4040047-3/M, 06/2011; PackageReference: D8; PackageDescription: 8-Pin Plastic Small Outline, Body 4.9 x 3.9 mm, Pitch 1.27 mm; Supplier 1: Digi-Key; Supplier Part Number 1: OPA355UA/2K5-ND; Supplier 2: Mouser; Supplier Part Number 2: 595-OPA355UA/2K5; Acl, min stable gain(V/V): 1; Eco-Plan: Green (RoHS & no Sb/Br); Iib(Max)(nA): 0.05; Number of Channels: 1; Mounting Technology: Surface Mount; Code_JEDEC: MS-012; ComponentLink1Description: Manufacturer URL; ComponentLink1URL: http://www.ti.com/; ComponentLink2Description: Datasheet; ComponentLink2URL: http://www.ti.com/general/docs/lit/getliterature.tsp?genericPartNumber=OPA355&fileType=pdf; ComponentLink3Description: Package Specification; ComponentLink3URL: http://www.ti.com/litv/pdf/msoi002j
footprint TI-D8_N (SOIC, 8-Leads, Body 4.9x3.9mm, Pitch 1.27mm, IPC Medium Density)
footprint TI-D8_L (SOIC, 8-Leads, Body 4.9x3.9mm, Pitch 1.27mm, IPC High Density)
footprint TI-D8_M (SOIC, 8-Leads, Body 4.9x3.9mm, Pitch 1.27mm, IPC Low Density)
pins: 1 NC, 2 IN- (in), 3 IN+ (in), 4 V- (power), 5 NC, 6 OUT (hiz), 7 V+ (power), 8 ENABLE (in)

## OPA355UA/2K5G4
designator U?
200 MHz GBW, CMOS Single Operational Amplifier with Shutdown, 2.5 to 5.5 V, -40 to 125 degC, 8-pin SOIC (D8), Green (RoHS & no Sb/Br); Manufacturer: Texas Instruments; PartNumber: OPA355UA/2K5G4; 2nd Harmonic(dBc): 81; 3rd Harmonic(dBc): 93; @ MHz: 1; BW @ Acl(MHz): 450; Diff Gain(%): 0.02; Diff Phase(deg): 0.05; Io(Typ)(mA): 100; Iq per channel(Max)(mA): 14; Rail-Rail: Out; Settling Time (0.1%)(Typ)(ns): 30; Slew Rate(Typ)(V/us): 360; Sub Family: High Output Current Amplifier (>=50mA), High Speed Amplifier (>=50MHz), Low Supply Voltage Amplifier (<=2.7V); THD (Fc is 1 MHz)(Typ)(dB): -79; Vio(Max)(mV): 2; Vn at Flatband(Typ)(nV/rtHz): 5.8; Vs(Max)(V): 5.5; Vs(Min)(V): 2.5; DatasheetVersion: SBOS195D; PackageVersion: 4040047-3/M, 06/2011; PackageReference: D8; PackageDescription: 8-Pin Plastic Small Outline, Body 4.9 x 3.9 mm, Pitch 1.27 mm; Supplier 1: Digi-Key; Supplier Part Number 1: OPA355UA/2K5G4-ND; Supplier 2: Mouser; Supplier Part Number 2: 595-OPA355UA/2K5G4; Acl, min stable gain(V/V): 1; Eco-Plan: Green (RoHS & no Sb/Br); Iib(Max)(nA): 0.05; Number of Channels: 1; Mounting Technology: Surface Mount; Code_JEDEC: MS-012; ComponentLink1Description: Manufacturer URL; ComponentLink1URL: http://www.ti.com/; ComponentLink2Description: Datasheet; ComponentLink2URL: http://www.ti.com/general/docs/lit/getliterature.tsp?genericPartNumber=OPA355&fileType=pdf; ComponentLink3Description: Package Specification; ComponentLink3URL: http://www.ti.com/litv/pdf/msoi002j
footprint TI-D8_N (SOIC, 8-Leads, Body 4.9x3.9mm, Pitch 1.27mm, IPC Medium Density)
footprint TI-D8_L (SOIC, 8-Leads, Body 4.9x3.9mm, Pitch 1.27mm, IPC High Density)
footprint TI-D8_M (SOIC, 8-Leads, Body 4.9x3.9mm, Pitch 1.27mm, IPC Low Density)
pins: 1 NC, 2 IN- (in), 3 IN+ (in), 4 V- (power), 5 NC, 6 OUT (hiz), 7 V+ (power), 8 ENABLE (in)

## OPA355UAG4
designator U?
200 MHz GBW, CMOS Single Operational Amplifier with Shutdown, 2.5 to 5.5 V, -40 to 125 degC, 8-pin SOIC (D8), Green (RoHS & no Sb/Br); Manufacturer: Texas Instruments; PartNumber: OPA355UAG4; 2nd Harmonic(dBc): 81; 3rd Harmonic(dBc): 93; @ MHz: 1; BW @ Acl(MHz): 450; Diff Gain(%): 0.02; Diff Phase(deg): 0.05; Io(Typ)(mA): 100; Iq per channel(Max)(mA): 14; Settling Time (0.1%)(Typ)(ns): 30; Slew Rate(Typ)(V/us): 360; Sub Family: High Output Current Amplifier (>=50mA), High Speed Amplifier (>=50MHz), Low Supply Voltage Amplifier (<=2.7V); THD (Fc is 1 MHz)(Typ)(dB): -79; Vio(Max)(mV): 15; Vn at Flatband(Typ)(nV/rtHz): 5.8; Vs(Max)(V): 5.5; Vs(Min)(V): 2.5; DatasheetVersion: SBOS195D; PackageVersion: 4040047-3/M, 06/2011; PackageReference: D8; PackageDescription: 8-Pin Plastic Small Outline, Body 4.9 x 3.9 mm, Pitch 1.27 mm; Supplier 1: Digi-Key; Supplier Part Number 1: OPA355UAG4-ND; Supplier 2: Mouser; Supplier Part Number 2: 595-OPA355UAG4; Acl, min stable gain(V/V): 1; Eco-Plan: Green (RoHS & no Sb/Br); Iib(Max)(nA): 0.05; Number of Channels: 1; Mounting Technology: Surface Mount; Code_JEDEC: MS-012; ComponentLink1Description: Manufacturer URL; ComponentLink1URL: http://www.ti.com/; ComponentLink2Description: Datasheet; ComponentLink2URL: http://www.ti.com/general/docs/lit/getliterature.tsp?genericPartNumber=OPA355&fileType=pdf; ComponentLink3Description: Package Specification; ComponentLink3URL: http://www.ti.com/litv/pdf/msoi002j
footprint TI-D8_N (SOIC, 8-Leads, Body 4.9x3.9mm, Pitch 1.27mm, IPC Medium Density)
footprint TI-D8_L (SOIC, 8-Leads, Body 4.9x3.9mm, Pitch 1.27mm, IPC High Density)
footprint TI-D8_M (SOIC, 8-Leads, Body 4.9x3.9mm, Pitch 1.27mm, IPC Low Density)
pins: 1 NC, 2 IN- (in), 3 IN+ (in), 4 V- (power), 5 NC, 6 OUT (hiz), 7 V+ (power), 8 ENABLE (in)

## OPA356AID
designator U?
200 MHz GBW, CMOS Single Operational Amplifier, 2.5 to 5.5 V, -40 to 125 degC, 8-pin SOIC (D8), Green (RoHS & no Sb/Br); Manufacturer: Texas Instruments; PartNumber: OPA356AID; 2nd Harmonic(dBc): 81; 3rd Harmonic(dBc): 93; @ MHz: 1; BW @ Acl(MHz): 450; Diff Gain(%): 0.02; Diff Phase(deg): 0.05; Io(Typ)(mA): 100; Iq per channel(Max)(mA): 14; Rail-Rail: Out; Settling Time (0.1%)(Typ)(ns): 30; Slew Rate(Typ)(V/us): 360; Sub Family: High Output Current Amplifier (>=50mA), High Speed Amplifier (>=50MHz), Low Supply Voltage Amplifier (<=2.7V); THD (Fc is 1 MHz)(Typ)(dB): -79; Vio(Max)(mV): 9; Vn at Flatband(Typ)(nV/rtHz): 5.8; Vs(Max)(V): 5.5; Vs(Min)(V): 2.5; DatasheetVersion: SBOS212A; PackageVersion: 4040047-3/M, 06/2011; PackageReference: D8; PackageDescription: 8-Pin Plastic Small Outline, Body 4.9 x 3.9 mm, Pitch 1.27 mm; Supplier 1: Digi-Key; Supplier Part Number 1: 296-12407-5-ND; Supplier 2: Newark; Supplier Part Number 2: 75C4911; Supplier 3: Mouser; Supplier Part Number 3: 595-OPA356AID; Acl, min stable gain(V/V): 1; Eco-Plan: Green (RoHS & no Sb/Br); Iib(Max)(nA): 0.05; Number of Channels: 1; Mounting Technology: Surface Mount; Code_JEDEC: MS-012; ComponentLink1Description: Manufacturer URL; ComponentLink1URL: http://www.ti.com/; ComponentLink2Description: Datasheet; ComponentLink2URL: http://www.ti.com/general/docs/lit/getliterature.tsp?genericPartNumber=OPA356&fileType=pdf; ComponentLink3Description: Package Specification; ComponentLink3URL: http://www.ti.com/litv/pdf/msoi002j
footprint TI-D8_N (SOIC, 8-Leads, Body 4.9x3.9mm, Pitch 1.27mm, IPC Medium Density)
footprint TI-D8_L (SOIC, 8-Leads, Body 4.9x3.9mm, Pitch 1.27mm, IPC High Density)
footprint TI-D8_M (SOIC, 8-Leads, Body 4.9x3.9mm, Pitch 1.27mm, IPC Low Density)
part A pins: 2 IN- (in), 3 IN+ (in), 4 V- (power), 6 OUT (out), 7 V+ (power)
part B pins: 1 NC, 5 NC, 8 NC

## OPA356AIDBVR
designator U?
200 MHz GBW, CMOS Single Operational Amplifier, 2.5 to 5.5 V, -40 to 125 degC, 5-pin SOT23 (DBV5), Green (RoHS & no Sb/Br); Manufacturer: Texas Instruments; PartNumber: OPA356AIDBVR; 2nd Harmonic(dBc): 81; 3rd Harmonic(dBc): 93; @ MHz: 1; BW @ Acl(MHz): 450; Diff Gain(%): 0.02; Diff Phase(deg): 0.05; Io(Typ)(mA): 100; Iq per channel(Max)(mA): 14; Rail-Rail: Out; Settling Time (0.1%)(Typ)(ns): 30; Slew Rate(Typ)(V/us): 360; Sub Family: High Output Current Amplifier (>=50mA), High Speed Amplifier (>=50MHz), Low Supply Voltage Amplifier (<=2.7V); THD (Fc is 1 MHz)(Typ)(dB): -79; Vio(Max)(mV): 9; Vn at Flatband(Typ)(nV/rtHz): 5.8; Vs(Max)(V): 5.5; Vs(Min)(V): 2.5; DatasheetVersion: SBOS212A; PackageVersion: 4073253-4/K, 03/2006; PackageReference: DBV5; PackageDescription: 5-Pin Plastic Small Outline, Body 1.6 x 2.9 mm, Pitch 0.95 mm; Supplier 1: Digi-Key; Supplier Part Number 1: 296-32191-2-ND; Supplier 2: Digi-Key; Supplier Part Number 2: 296-32191-1-ND; Supplier 3: Digi-Key; Supplier Part Number 3: 296-32191-6-ND; Supplier 4: Newark; Supplier Part Number 4: 75C4912; Supplier 5: Mouser; Supplier Part Number 5: 595-OPA356AIDBVR; Acl, min stable gain(V/V): 1; Eco-Plan: Green (RoHS & no Sb/Br); Iib(Max)(nA): 0.05; Number of Channels: 1; Mounting Technology: Surface Mount; Code_JEDEC: MO-178; ComponentLink1Description: Manufacturer URL; ComponentLink1URL: http://www.ti.com/; ComponentLink2Description: Datasheet; ComponentLink2URL: http://www.ti.com/general/docs/lit/getliterature.tsp?genericPartNumber=OPA356&fileType=pdf; ComponentLink3Description: Package Specification; ComponentLink3URL: http://www.ti.com/litv/pdf/mpds018i
footprint TI-DBV5_N (SOT23, 5-Leads, Body 2.9x1.6mm, Pitch 0.95mm, IPC Medium Density)
footprint TI-DBV5_L (SOT23, 5-Leads, Body 2.9x1.6mm, Pitch 0.95mm, IPC High Density)
footprint TI-DBV5_M (SOT23, 5-Leads, Body 2.9x1.6mm, Pitch 0.95mm, IPC Low Density)
pins: 1 OUT (out), 2 V- (power), 3 IN+ (in), 4 IN- (in), 5 V+ (power)